# Altium footprint library power-ic-module.PcbLib: 7 footprints
Each footprint in its own frame and in the unit in brackets; x right, y up, seen from the top. Pads: shape width x height; smd on the part's side, far side on the other; paste and mask are expansions set on the pad; w line width, h text height; cw(c..) or ccw(c..) is an arc to the next point about the centre after c.
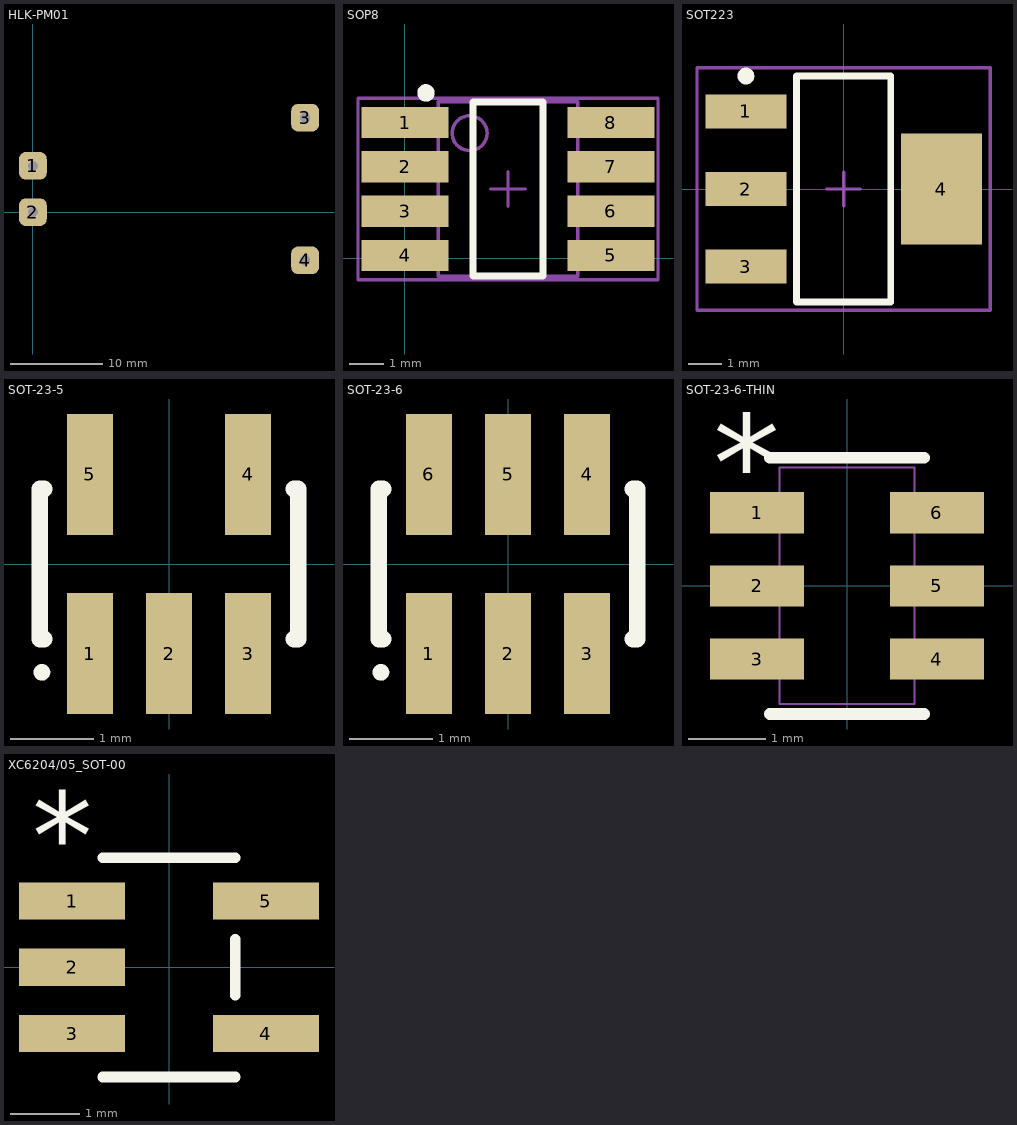
[diagram p0: the footprints below, top view; thin cyan lines are the x and y axes]

## HLK-PM01 [mm]
pads (4):
  rrect50% 3x3 hole 1.1: 1(0,5) 2(0,0) 3(29.4,10.2) 4(29.4,-5.2)
3D body "hlk-pm01.step": height 15, standoff -5, extent -2.3,-7.5 31.7,12.7

## SOP8 [mm]
pads (8):
  rect 2.5x0.9 smd: 1(0.013,3.889) 2(0.013,2.619) 3(0.013,1.349) 4(0.013,0.079) 5(5.913,0.079) 6(5.913,1.349) 7(5.913,2.619) 8(5.913,3.889)
Top Overlay:
  circle w0.25: c0.613,4.739 r0.125
  lines w0.2: 1.963,-0.516 3.963,-0.516 3.963,4.484 1.963,4.484 1.963,-0.516
Mechanical 13:
  circle w0.1: c1.863,3.584 r0.5
  lines w0.1: 0.963,-0.516 4.963,-0.516 4.963,4.484 0.963,4.484 0.963,-0.516
Mechanical 15:
  lines w0.1: 2.463,1.984 3.463,1.984 ; 2.963,1.484 2.963,2.484 ; -1.337,-0.616 7.263,-0.616 7.263,4.584 -1.337,4.584 -1.337,-0.616
3D body "SOIC8.step": height 1.75, standoff 0, extent -0.037,-0.466 5.963,4.434

## SOT223 [mm] "SOT223, 4-Leads, Body 6.5x3.5mm, Pitch 2.3mm, Lead Span 7mm, IPC Medium Density"
height 1.8
pads (4):
  rect 2.4x1 smd: 1(-2.9,2.3) 2(-2.9,0) 3(-2.9,-2.3)
  rect 2.4x3.3 smd: 4(2.9,0)
Top Overlay:
  circle w0.25: c-2.9,3.35 r0.125
  lines w0.2: -1.4,-3.35 -1.4,3.35 1.4,3.35 1.4,-3.35 -1.4,-3.35
Mechanical 15:
  lines w0.1: -0.5,0 0.5,0 ; 0,-0.5 0,0.5 ; -4.35,-3.6 -4.35,3.6 4.35,3.6 4.35,-3.6 -4.35,-3.6
3D body "SW3dPS-Regulator.STEP": height 1.72, standoff 0.02, extent -3.395,-3.274 3.496,3.226

## SOT-23-5 [mm]
height 1.45
pads (5):
  rect 0.55x1.45 smd: 1(-0.95,-1.075) 2(0,-1.075) 3(0.95,-1.075) 4(0.95,1.075) 5(-0.95,1.075)
Top Overlay:
  circle w0.1: c-1.525,-1.3 r0.05
  lines w0.2: -1.5,-0.9 -1.55,-0.9 -1.55,0.9 -1.5,0.9 ; 1.5,-0.9 1.55,-0.9 1.55,0.9 1.5,0.9
3D body "TSOT-5.step": height 1, standoff 0, extent -1.45,-1.451 1.45,1.349

## SOT-23-6 [mm]
height 1.45
pads (6):
  rect 0.55x1.45 smd: 1(-0.95,-1.075) 2(0,-1.075) 3(0.95,-1.075) 4(0.95,1.075) 5(0,1.075) 6(-0.95,1.075)
Top Overlay:
  circle w0.1: c-1.525,-1.3 r0.05
  lines w0.2: -1.5,-0.9 -1.55,-0.9 -1.55,0.9 -1.5,0.9 ; 1.5,-0.9 1.55,-0.9 1.55,0.9 1.5,0.9
3D body "SOT23-6L.stp": height 1.45, standoff 0, extent -1.499,-1.525 1.5,1.475

## SOT-23-6-THIN [mil]
pads (6):
  rect 48x21 smd paste+0 mask+0: 1(-46,37.4) 2(-46,0) 3(-46,-37.4) 4(46,-37.4) 5(46,0) 6(46,37.4)
Top Overlay:
  lines w6: -39.5,-65.5 39.5,-65.5 ; -39.5,65.5 39.5,65.5
  text "*" at -68.5,37.9 h50
Mechanical 13:
  lines w1: -56,-46.9 -56,-27.9 -34.5,-27.9 -34.5,-46.9 -56,-46.9 ; -56,-9.5 -56,9.5 -34.5,9.5 -34.5,-9.5 -56,-9.5 ; -56,27.9 -56,46.9 -34.5,46.9 -34.5,27.9 -56,27.9 ; -34.5,-60.5 34.5,-60.5 34.5,60.5 -34.5,60.5 -34.5,-60.5 ; 34.5,-46.9 34.5,-27.9 56,-27.9 56,-46.9 34.5,-46.9 ; 34.5,-9.5 34.5,9.5 56,9.5 56,-9.5 34.5,-9.5 ; 34.5,27.9 34.5,46.9 56,46.9 56,27.9 34.5,27.9
  text "*" at -37,17.9 h50
3D body "MK06A_TEX.step": height 39.09, standoff 0, extent -55.98,-60.51 55.99,60.52
3D body: height 10, standoff 0, extent 0,0 10,10

## XC6204/05_SOT-00 [mil]
pads (5):
  rect 60x21 smd: 1(-54.75,37.4) 2(-54.75,0) 3(-54.75,-37.4) 4(54.75,-37.4) 5(54.75,37.4)
Top Overlay:
  lines w6: -37.5,-62 37.5,-62 ; -37.5,62 37.5,62 ; 37.5,-15.8 37.5,15.8
  text "*" at -77.25,49.4 h50
3D body: height 10, standoff 0, extent 0,0 10,10
3D body "XC620405_SOT-25_TOR.step": height 51.1, standoff 0, extent -55.99,-57 54.01,57.01